# Altium footprint library CON5_2.54_RT_SMD_MALE.PcbLib: 1 footprints
Each footprint in its own frame and in the unit in brackets; x right, y up, seen from the top. Pads: shape width x height; smd on the part's side, far side on the other; paste and mask are expansions set on the pad; w line width, h text height; cw(c..) or ccw(c..) is an arc to the next point about the centre after c.
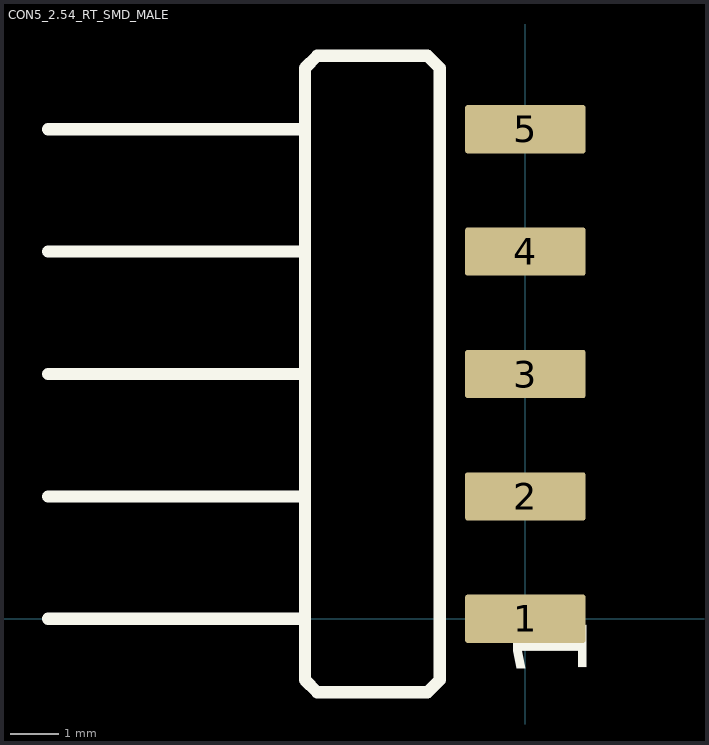
[diagram p0: the footprint, top view; thin cyan lines are the x and y axes]

## CON5_2.54_RT_SMD_MALE [mm]
height 2.5
pads (5):
  rrect10% 2.5x1 smd: 1(0,0) 2(0,2.54) 3(0,5.08) 4(0,7.62) 5(0,10.16)
Top Overlay:
  lines w0.254: -9.906,0 -4.572,0 ; -9.906,2.54 -4.572,2.54 ; -9.906,5.08 -4.572,5.08 ; -9.906,7.62 -4.572,7.62 ; -9.906,10.16 -4.572,10.16 ; -4.572,-1.27 -4.318,-1.524 -2.032,-1.524 -1.778,-1.27 -1.778,11.43 -2.032,11.684 -4.318,11.684 -4.572,11.43 -4.572,-1.27
  text "1" at 1.27,-1.27 h1.52
3D body: height 2.5, standoff 0, extent -9.9,-1.27 1,11.43